# EAGLE library part CAN-TRANSCEIVER-TCAN1051 (library FlashPCB_ICs)
TCAN1051HGV - IC TRANSCEIVER HALF 1/1 8SOIC Technical Specifications: 1/1 Transceiver Half CANbus 8-SOIC Transceiver, Half-Duplex Protocol: CANBus Drivers/Receivers: 1/1 Receiver Hysteresis: 120mV Data Rate: 5Mbps Supply Voltage: 4.5V~5.5V Component Search: TCAN1051 <https://www.flashpcb.com/components> Datasheet: TCAN1051 Fault Protected CAN Transceiver with CAN FD datasheet (Rev. E) <https://www.ti.com/lit/ds/symlink/tcan1051h.pdf?HQS=dis-dk-null-digikeymode-dsf-pf-null-wwe&ts=1685020827589&ref_url=https%253A%252F%252Fwww.ti.com%252Fgeneral%252Fdocs%252Fsuppproductinfo.tsp%253FdistId%253D10%2526gotoUrl%253Dhttps%253A%252F%252Fwww.ti.com%252Flit%252Fgpn%252Ftcan1051h>
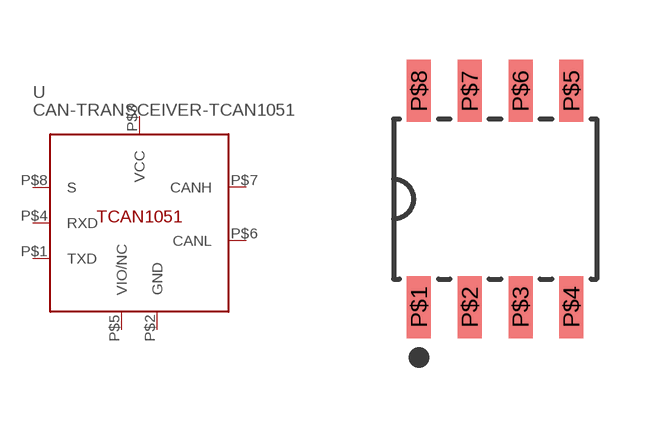
[diagram p33: symbol with the pads of SOIC-8-150MIL-3.9MM; footprint SOIC-8-150MIL-3.9MM]

Designator prefix U

## CAN-TRANSCEIVER-TCAN1051D  [SOIC-8-150MIL-3.9MM]
P$1  TXD
P$2  GND
P$3  VCC
P$4  RXD
P$5  VIO/NC
P$6  CANL
P$7  CANH
P$8  S

## Footprint SOIC-8-150MIL-3.9MM (pad centres in mm)
smd 0.6 x 1.55: P$1 -1.905,-2.7; P$2 -0.635,-2.7; P$3 0.635,-2.7; P$4 1.905,-2.7; P$5 1.905,2.7; P$6 0.635,2.7; P$7 -0.635,2.7; P$8 -1.905,2.7